# Altium schematic symbol library OPA690IDB.SchLib: 1 symbol
Pins are listed as number, name and electrical type; pins without a type are passive.

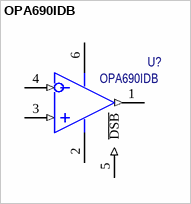
[diagram p0: symbol OPA690IDB]

## OPA690IDB
designator U?
Voltage-Feedback Operational Amplifier With Disable; Потребление, Вт: 0,01; Назначение: Voltage-Feedback Operational Amplifier With Disable; ComponentLink1Description: DataSheet; ComponentLink1URL: https://static.chipdip.ru/lib/284/DOC012284598.pdf; Наименование: OPA690IDB
footprint SOT23-6
pins: 1 OUT (out), 2 V- (power), 3 IN+ (in), 4 IN- (in), 5 ~{DSB} (in), 6 V+ (power)